# Altium integrated library VJ2220Y105KBBAT4X.IntLib: 1 symbol
Pins are listed as number, name and electrical type; pins without a type are passive.

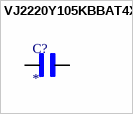
[diagram p0: symbol VJ2220Y105KBBAT4X]

## VJ2220Y105KBBAT4X
designator C?
1 ÂµF Â±10% 100V Ceramic Capacitor X7R 2220 (5750 Metric); MF: Vishay Vitramon; MP: VJ2220Y105KBBAT4X; SnapEDA_Link: https://www.snapeda.com/parts/VJ2220Y105KBBAT4X/Vishay/view-part/?ref=snap; Package: 5550 Vishay Vitramon; Value: *; Check_prices: https://www.snapeda.com/parts/VJ2220Y105KBBAT4X/Vishay/view-part/?ref=eda
footprint CAPC5550X218N
pins: 1, 2